# EAGLE library part ESP32-WROOM-32D (library tecsmith-esp32)
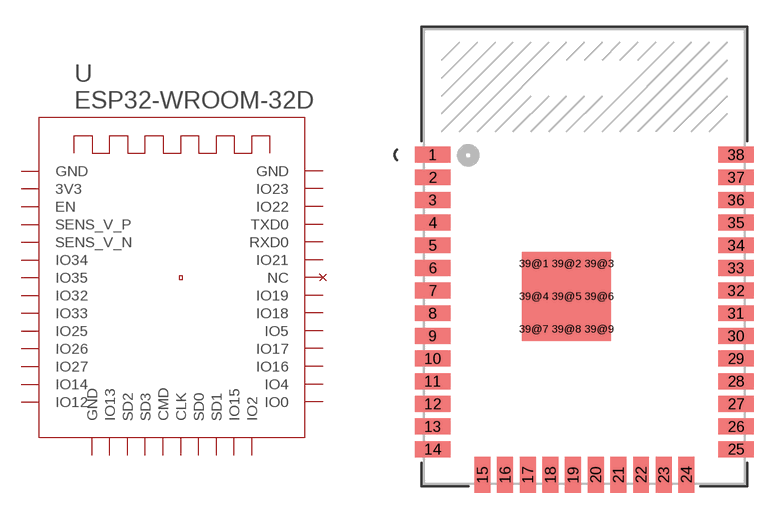
[diagram p0: symbol with the pads of ESP32-WROOM-32_EXP; footprint ESP32-WROOM-32_EXP]

Designator prefix U

## ESP32-WROOM-32D  [ESP32-WROOM-32_EXP]
1  GND  pas
2  3V3  pas
3  EN  pas
4  SENS_V_P  pas
5  SENS_V_N  pas
6  IO34  pas
7  IO35  pas
8  IO32  pas
9  IO33  pas
10  IO25  pas
11  IO26  pas
12  IO27  pas
13  IO14  pas
14  IO12  pas
15  GND  pas
16  IO13  pas
17  SD2  pas
18  SD3  pas
19  CMD  pas
20  CLK  pas
21  SD0  pas
22  SD1  pas
23  IO15  pas
24  IO2  pas
25  IO0  pas
26  IO4  pas
27  IO16  pas
28  IO17  pas
29  IO5  pas
30  IO18  pas
31  IO19  pas
32  NC  pas
33  IO21  pas
34  RXD0  pas
35  TXD0  pas
36  IO22  pas
37  IO23  pas
38  GND  pas
39@1  GND  pas
39@2  GND  pas
39@3  GND  pas
39@4  GND  pas
39@5  GND  pas
39@6  GND  pas
39@7  GND  pas
39@8  GND  pas
39@9  GND  pas

## Footprint ESP32-WROOM-32_EXP (pad centres in mm)
smd 2.007 x 0.889: 1 -8.5,5.704; 2 -8.5,4.434; 3 -8.5,3.164; 4 -8.5,1.894; 5 -8.5,0.624; 6 -8.5,-0.646; 7 -8.5,-1.916; 8 -8.5,-3.186; 9 -8.5,-4.456; 10 -8.5,-5.726; 11 -8.5,-6.996; 12 -8.5,-8.266; 13 -8.5,-9.536; 14 -8.5,-10.806; 25 8.5,-10.806; 26 8.5,-9.536; 27 8.5,-8.266; 28 8.5,-6.996; 29 8.5,-5.726; 30 8.5,-4.456; 31 8.5,-3.186; 32 8.5,-1.916; 33 8.5,-0.646; 34 8.5,0.624; 35 8.5,1.894; 36 8.5,3.164; 37 8.5,4.434; 38 8.5,5.704
smd 0.889 x 2.007: 15 -5.715,-12.248; 16 -4.445,-12.248; 17 -3.175,-12.248; 18 -1.905,-12.248; 19 -0.635,-12.248; 20 0.635,-12.248; 21 1.905,-12.248; 22 3.175,-12.248; 23 4.445,-12.248; 24 5.715,-12.248
smd 1.321 x 1.321: 39@1 -2.839,-0.405; 39@2 -1.004,-0.405; 39@3 0.831,-0.405; 39@4 -2.839,-2.24; 39@5 -1.004,-2.24; 39@6 0.831,-2.24; 39@7 -2.839,-4.075; 39@8 -1.004,-4.075; 39@9 0.831,-4.075